# Altium footprint library bg_pcb.PcbLib: 67 footprints (part 3 of 5)
Each footprint in its own frame and in the unit in brackets; x right, y up, seen from the top. Pads: shape width x height; smd on the part's side, far side on the other; paste and mask are expansions set on the pad; w line width, h text height; cw(c..) or ccw(c..) is an arc to the next point about the centre after c.
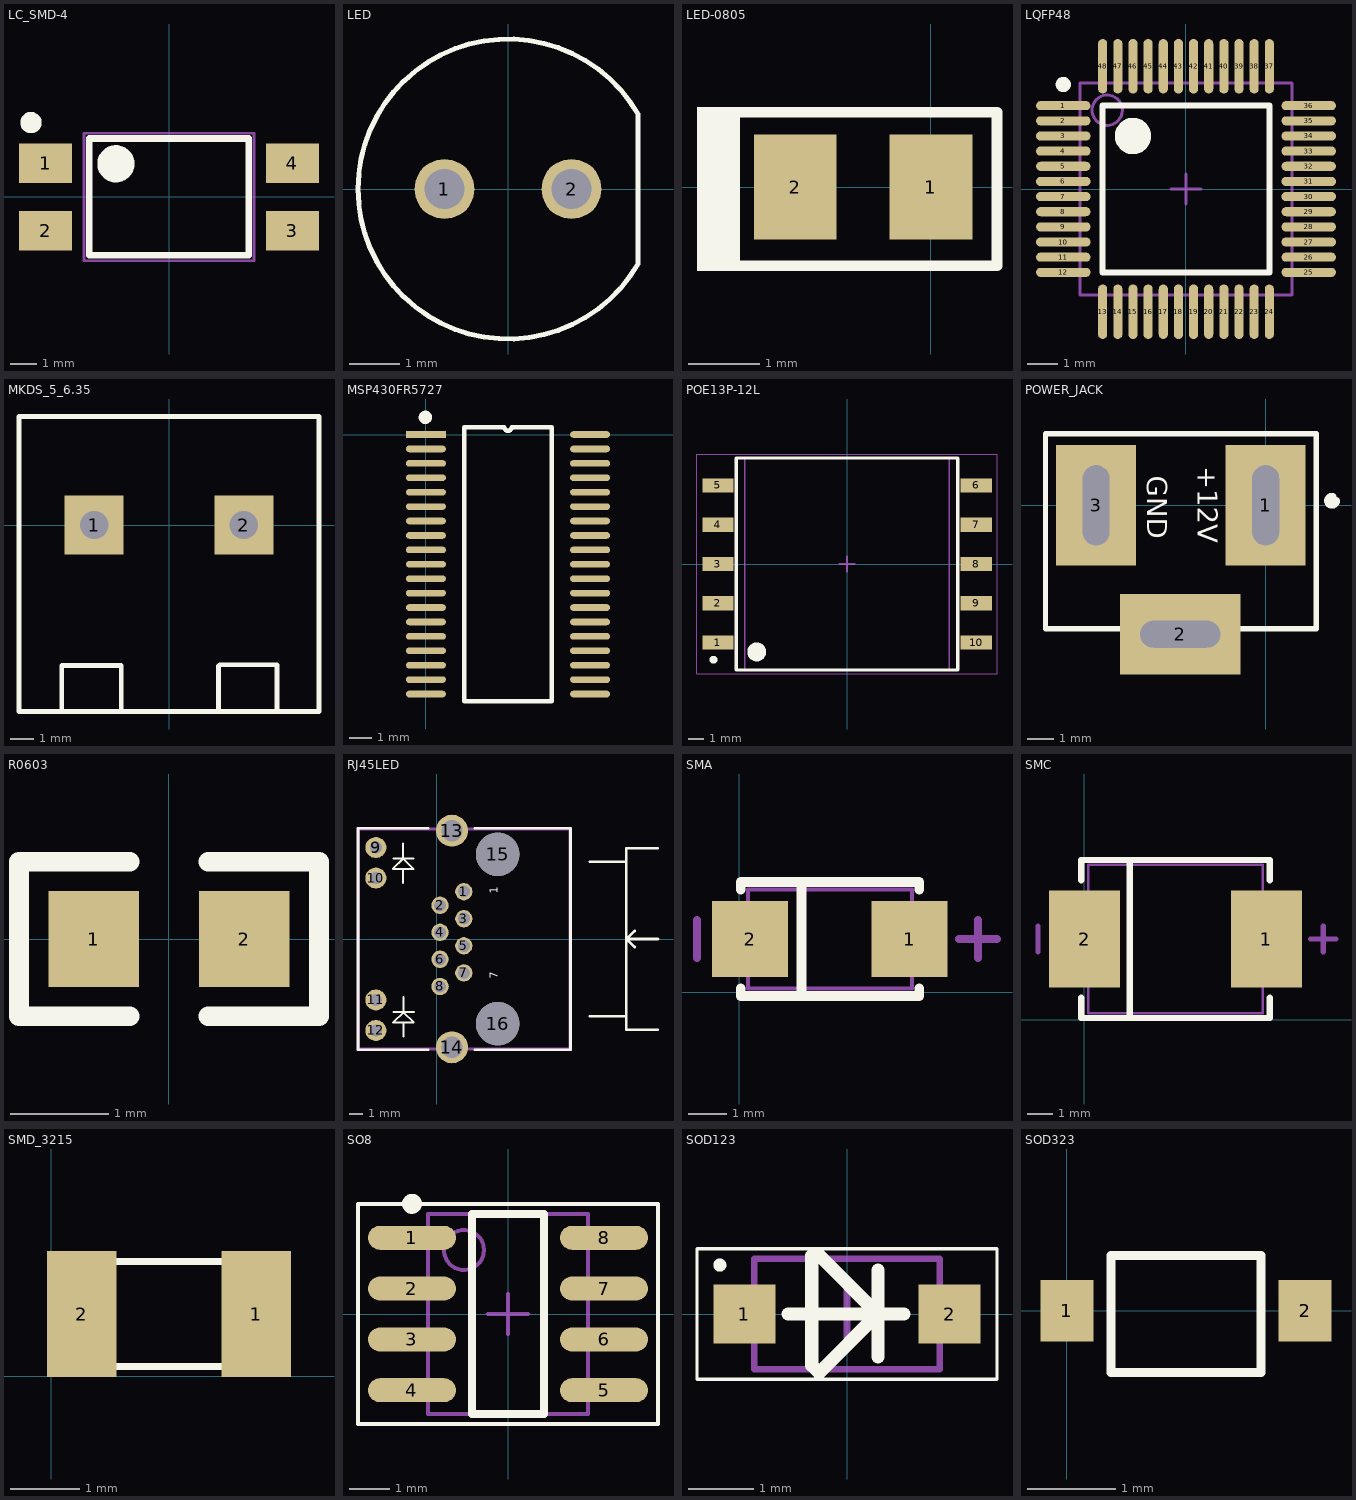
[diagram p2: the footprints below, top view; thin cyan lines are the x and y axes]

## LC_SMD-4 [mm]
height 4
pads (4):
  rect 2x1.5 smd: 1(-4.65,1.27) 2(-4.65,-1.27) 3(4.65,-1.27) 4(4.65,1.27)
Top Overlay:
  circle w0.7: c-2,1.25 r0.35
  circle w0.4: c-5.2,2.8 r0.2
  lines w0.254: -3,-2.2 3,-2.2 3,2.2 -3,2.2 -3,-2.2
Mechanical 13:
  lines w0.1: -3.2,-2.4 -3.2,2.4 3.2,2.4 3.2,-2.4 -3.2,-2.4
3D body "User Library-DIP4_opto_iso.STEP": height 3.9, standoff 0, extent -5.015,-2.416 5.015,2.416

## LED [mm]
pads (2):
  round 1.2 hole 0.8 mask+0: 1(-1.27,0) 2(1.27,0)
Top Overlay:
  lines w0.1: 2.598,-1.5 cw(c0,0) 2.598,1.5 2.598,-1.5

## LED-0805 [mm] "Chip Capacitor, Body 2.0x1.3mm, IPC High Density"
height 1.4
pads (2):
  rect 1.16x1.47 smd: 1(0,0) 2(-1.9,0)
Top Overlay:
  rectangle: -3.275,-1.175 -2.925,1.125
  rectangle: -3.025,-1.175 -2.675,1.125
  lines w0.152: -2.875,1.05 0.925,1.05 0.925,-1.1 ; -2.75,-1.1 0.89,-1.1

## LQFP48 [mm]
height 4.32
pads (48):
  oval 1.8x0.3 smd: 1(-4.038,2.752) 2(-4.038,2.252) 3(-4.038,1.752) 4(-4.038,1.252) 5(-4.038,0.752) 6(-4.038,0.252) 7(-4.038,-0.248) 8(-4.038,-0.748) 9(-4.038,-1.248) 10(-4.038,-1.748) 11(-4.038,-2.248) 12(-4.038,-2.748) 25(4.062,-2.748) 26(4.062,-2.248) 27(4.062,-1.748) 28(4.062,-1.248) 29(4.062,-0.748) 30(4.062,-0.248) 31(4.062,0.252) 32(4.062,0.752) 33(4.062,1.252) 34(4.062,1.752) 35(4.062,2.252) 36(4.062,2.752)
  oval 0.3x1.8 smd: 13(-2.738,-4.048) 14(-2.238,-4.048) 15(-1.738,-4.048) 16(-1.238,-4.048) 17(-0.738,-4.048) 18(-0.238,-4.048) 19(0.262,-4.048) 20(0.762,-4.048) 21(1.262,-4.048) 22(1.762,-4.048) 23(2.262,-4.048) 24(2.762,-4.048) 37(2.762,4.052) 38(2.262,4.052) 39(1.762,4.052) 40(1.262,4.052) 41(0.762,4.052) 42(0.262,4.052) 43(-0.238,4.052) 44(-0.738,4.052) 45(-1.238,4.052) 46(-1.738,4.052) 47(-2.238,4.052) 48(-2.738,4.052)
Top Overlay:
  circle w0.25: c-4.038,3.452 r0.125
  circle w0.6: c-1.738,1.752 r0.3
  lines w0.2: -2.738,-2.748 -2.738,2.752 2.762,2.752 2.762,-2.748 -2.738,-2.748
Mechanical 13:
  circle w0.1: c-2.588,2.602 r0.5
  lines w0.1: -3.488,-3.498 -3.488,3.502 3.512,3.502 3.512,-3.498 -3.488,-3.498
Mechanical 15:
  lines w0.1: -0.488,0.002 0.512,0.002 ; 0.012,-0.498 0.012,0.502
3D body: height 1.6, standoff 0, extent -3.488,-3.498 3.512,3.502

## MKDS_5_6.35 [mm]
height 21.5
pads (2):
  rect 2.5x2.5 hole 1.2: 1(-3.175,0) 2(3.175,0)
Top Overlay:
  lines w0.2: -4.55,-7.875 -4.55,-5.95 -2.025,-5.95 -2.025,-7.85 ; 2.1,-7.9 2.1,-5.975 2.15,-5.925 4.575,-5.925 4.575,-7.85 4.525,-7.9 ; 6.36,-7.9 -6.36,-7.9 -6.36,4.6 6.36,4.6 6.36,-7.85

## MSP430FR5727 [mm]
pads (38):
  rect 1.8x0.3 smd: 1(0,0)
  oval 1.8x0.3 smd: 2(0,-0.65) 3(0,-1.3) 4(0,-1.95) 5(0,-2.6) 6(0,-3.25) 7(0,-3.9) 8(0,-4.55) 9(0,-5.2) 10(0,-5.85) 11(0,-6.5) 12(0,-7.15) 13(0,-7.8) 14(0,-8.45) 15(0,-9.1) 16(0,-9.75) 17(0,-10.4) 18(0,-11.05) 19(0,-11.7) 20(7.4,-11.7) 21(7.4,-11.05) 22(7.4,-10.4) 23(7.4,-9.75) 24(7.4,-9.1) 25(7.4,-8.45) 26(7.4,-7.8) 27(7.4,-7.15) 28(7.4,-6.5) 29(7.4,-5.85) 30(7.4,-5.2) 31(7.4,-4.55) 32(7.4,-3.9) 33(7.4,-3.25) 34(7.4,-2.6) 35(7.4,-1.95) 36(7.4,-1.3) 37(7.4,-0.65) 38(7.4,0)
Top Overlay:
  circle w0.3: c-0.025,0.775 r0.15
  lines w0.2: 1.735,-12.025 1.735,0.325 3.538,0.325 ccw(c3.7,0.325) 3.862,0.325 5.665,0.325 5.665,-12.025 1.735,-12.025

## POE13P-12L [mm]
height 12.7
pads (10):
  rect 2x0.9 smd: 1(-8.22,-5) 2(-8.22,-2.5) 3(-8.22,0) 4(-8.22,2.5) 5(-8.22,5) 6(8.22,5) 7(8.22,2.5) 8(8.22,0) 9(8.22,-2.5) 10(8.22,-5)
Top Overlay:
  circle w0.25: c-8.505,-6.1 r0.125
  circle w0.6: c-5.755,-5.6 r0.3
  lines w0.2: -7.055,-6.75 -7.055,6.75 7.045,6.75 7.045,-6.75 -7.055,-6.75
Mechanical 13:
  circle w0.1: c-5.755,-5.575 r0.5
  lines w0.1: -6.505,-6.75 -6.505,6.75 6.495,6.75 6.495,-6.75 -6.505,-6.75
Mechanical 15:
  lines w0.05: -9.555,-7 -9.555,7 9.545,7 9.545,-7 -9.555,-7
  lines w0.1: -0.505,0 0.495,0 ; -0.005,-0.5 -0.005,0.5
3D body: height 12.7, standoff 0.1, extent -6.505,-6.75 6.495,6.75

## POWER_JACK [mil]
pads (3):
  rect 120x180 hole 40 slot 120 at 90 deg: 1(0,0) 3(-253.94,0)
  rect 180x120 hole 40 slot 120 at 0 deg: 2(-127.95,-193.03)
Top Overlay:
  lines w8: -329.72,-184.88 75.79,-184.88 75.79,107.28 -329.72,107.28 -329.72,-184.88
  lines w11.81: 99.97,12.77 ccw(c99.41,6.89) 105.31,6.89
  text "+12V" at -101.39,58.31 h30
  text "GND" at -177.17,44.29 h30

## R0603 [mm]
pads (2):
  rect 0.93x0.98 smd: 1(-0.77,0) 2(0.77,0)
Top Overlay:
  lines w0.2: -0.4,-0.79 -1.535,-0.79 -1.535,0.79 -0.4,0.79 ; 0.4,-0.79 1.535,-0.79 1.535,0.79 0.4,0.79
3D body "User Library-RES_1609-0603.STEP": height 0.56, standoff 0, extent -0.85,-0.4 0.85,0.4

## RJ45LED [mm]
pads (16):
  round 1.3 hole 0.9: 1(2.03,3.55) 2(0.25,2.53) 3(2.03,1.52) 4(0.25,0.5) 5(2.03,-0.51) 6(0.25,-1.52) 7(2.03,-2.54) 8(0.25,-3.56)
  round 1.575 hole 0.9: 9(-4.57,6.86) 10(-4.57,4.57) 11(-4.57,-4.57) 12(-4.57,-6.86)
  round 2.4 hole 1.6: 13(1.14,8.13) 14(1.14,-8.13)
  round 3.25 hole 3.25 unplated: 15(4.57,6.35) 16(4.57,-6.35)
Top Overlay:
  lines w0.15: -3.26,6.04 -1.74,6.04 ; -3.24,-5.48 -1.72,-5.48 ; -2.53,4.22 -2.53,5.26 ; -2.53,7.15 -2.53,6.03 -1.76,5.26 -3.29,5.26 -2.51,6.04 ; -2.51,-7.3 -2.51,-6.26 ; -2.51,-4.37 -2.51,-5.49 -1.74,-6.26 -3.27,-6.26 -2.49,-5.48
  lines w0.2: -0.66,-8.3 -5.91,-8.3 -5.91,8.3 -0.66,8.3 ; 2.86,-8.3 10.03,-8.3 10.03,8.3 2.86,8.3 ; 11.5,-5.8 14.23,-5.8 ; 11.5,5.8 14.23,5.8 ; 14.85,-0.6 14.25,0 ; 14.85,0.6 14.25,0 ; 16.58,-6.8 14.23,-6.8 14.23,6.8 16.58,6.8 ; 16.6,0 14.25,0
  text "1" at 4.58,3.4 h0.6
  text "7" at 4.58,-3 h0.6
Mechanical 29:
  lines w0.254: -5.87,-8.25 -5.87,8.25 10.03,8.25 10.03,-8.15 9.93,-8.25 -5.87,-8.25
  text ".Designator" at 0.5,2 h1.52
3D body "c-2-406549-1-r4-3d.stp": height 14.8, standoff -3.92, extent -5.9,-9.3 10.821,9.328

## SMA [mm]
pads (2):
  rect 2x2 smd: 1(4.481,1.403) 2(0.281,1.403)
Top Overlay:
  lines w0.254: 0.031,0.103 0.031,-0.097 4.731,-0.097 4.731,0.103 ; 0.031,2.703 0.031,2.903 4.731,2.903 4.731,2.703 ; 1.631,-0.097 1.631,2.903
Mechanical 13:
  lines w0.1: 0.221,0.103 0.221,2.703 4.541,2.703 4.541,0.103 0.221,0.103
Mechanical 15:
  lines w0.203: -1.119,0.903 -1.119,1.903 ; 5.781,1.403 6.781,1.403 ; 6.281,0.903 6.281,1.903

## SMC [mil]
pads (2):
  rect 110x150 smd: 1(281.16,125.04) 2(0.18,125.04)
Top Overlay:
  lines w10: -5,34.49 -5,2.99 286.34,2.99 286.34,34.49 ; -5,215.59 -5,247.09 286.34,247.09 286.34,215.59 ; 69.8,2.99 69.8,247.09
Mechanical 13:
  lines w3.94: 5.63,10.08 275.71,10.08 275.71,240 5.63,240 5.63,10.08
Mechanical 15:
  lines w8: -71.93,105.35 -71.93,144.72 ; 349.33,125.04 388.7,125.04 ; 369.02,105.35 369.02,144.72

## SMD_3215 [mm]
pads (2):
  rect 1x1.8 smd: 1(2.938,0.89) 2(0.438,0.89)
Top Overlay:
  lines w0.1: 0.088,0.34 cw(c0.088,0.14) 0.288,0.14 3.088,0.14 cw(c3.288,0.14) 3.288,0.34 3.288,1.44 cw(c3.288,1.64) 3.088,1.64 0.288,1.64 cw(c0.088,1.64) 0.088,1.44 0.088,0.34

## SO8 [mm] "SOIC, 8-Leads, Body 4.9x3.9mm, Pitch 1.27mm, IPC Medium Density"
height 1.75
pads (8):
  oval 2.2x0.6 smd: 1(-2.4,1.905) 2(-2.4,0.635) 3(-2.4,-0.635) 4(-2.4,-1.905) 5(2.4,-1.905) 6(2.4,-0.635) 7(2.4,0.635) 8(2.4,1.905)
Top Overlay:
  circle w0.25: c-2.4,2.755 r0.125
  lines w0.1: -3.75,-2.75 -3.75,2.75 3.75,2.75 3.75,-2.75 -3.75,-2.75
  lines w0.2: -0.9,-2.5 0.9,-2.5 0.9,2.5 -0.9,2.5 -0.9,-2.5
Mechanical 13:
  circle w0.1: c-1.1,1.6 r0.5
  lines w0.1: -2,-2.5 2,-2.5 2,2.5 -2,2.5 -2,-2.5
Mechanical 15:
  lines w0.1: -0.5,0 0.5,0 ; 0,-0.5 0,0.5
3D body: height 1.75, standoff 0, extent -2,-2.5 2,2.5

## SOD123 [mm]
height 1.35
pads (2):
  rect 0.95x0.9 smd: 1(-1.575,0) 2(1.575,0)
Top Overlay:
  circle w0.1: c-1.95,0.75 r0.05
  lines w0.05: -2.3,-1 -2.3,1 2.3,1 2.3,-1 -2.3,-1
  lines w0.203: -0.9,0 0.475,0 ; 0.475,-0.655 0.475,0 ; 0.475,0.67 0.475,0 ; 0.875,0 0.475,0 ; 0.475,0 -0.427,-0.903 -0.541,-0.789 -0.541,0.895 -0.42,0.895 0.475,0
Mechanical 13:
  lines w0.1: -1.425,-0.85 -1.425,0.85 1.425,0.85 1.425,-0.85 -1.425,-0.85
Mechanical 15:
  lines w0.1: -0.5,0 0.5,0 ; 0,-0.5 0,0.5
3D body: height 1.35, standoff 0, extent -1.425,-0.85 1.425,0.85

## SOD323 [mm]
pads (2):
  rect 0.6x0.7 smd: 1(0,0) 2(2.7,0)
Top Overlay:
  lines w0.1: 0.5,-0.7 0.5,0.625 1.825,0.625 2.2,0.625 2.2,-0.7 0.5,-0.7